# Altium footprint library PCB_Library.PcbLib: 22 footprints (part 1 of 2)
Each footprint in its own frame and in the unit in brackets; x right, y up, seen from the top. Pads: shape width x height; smd on the part's side, far side on the other; paste and mask are expansions set on the pad; w line width, h text height; cw(c..) or ccw(c..) is an arc to the next point about the centre after c.
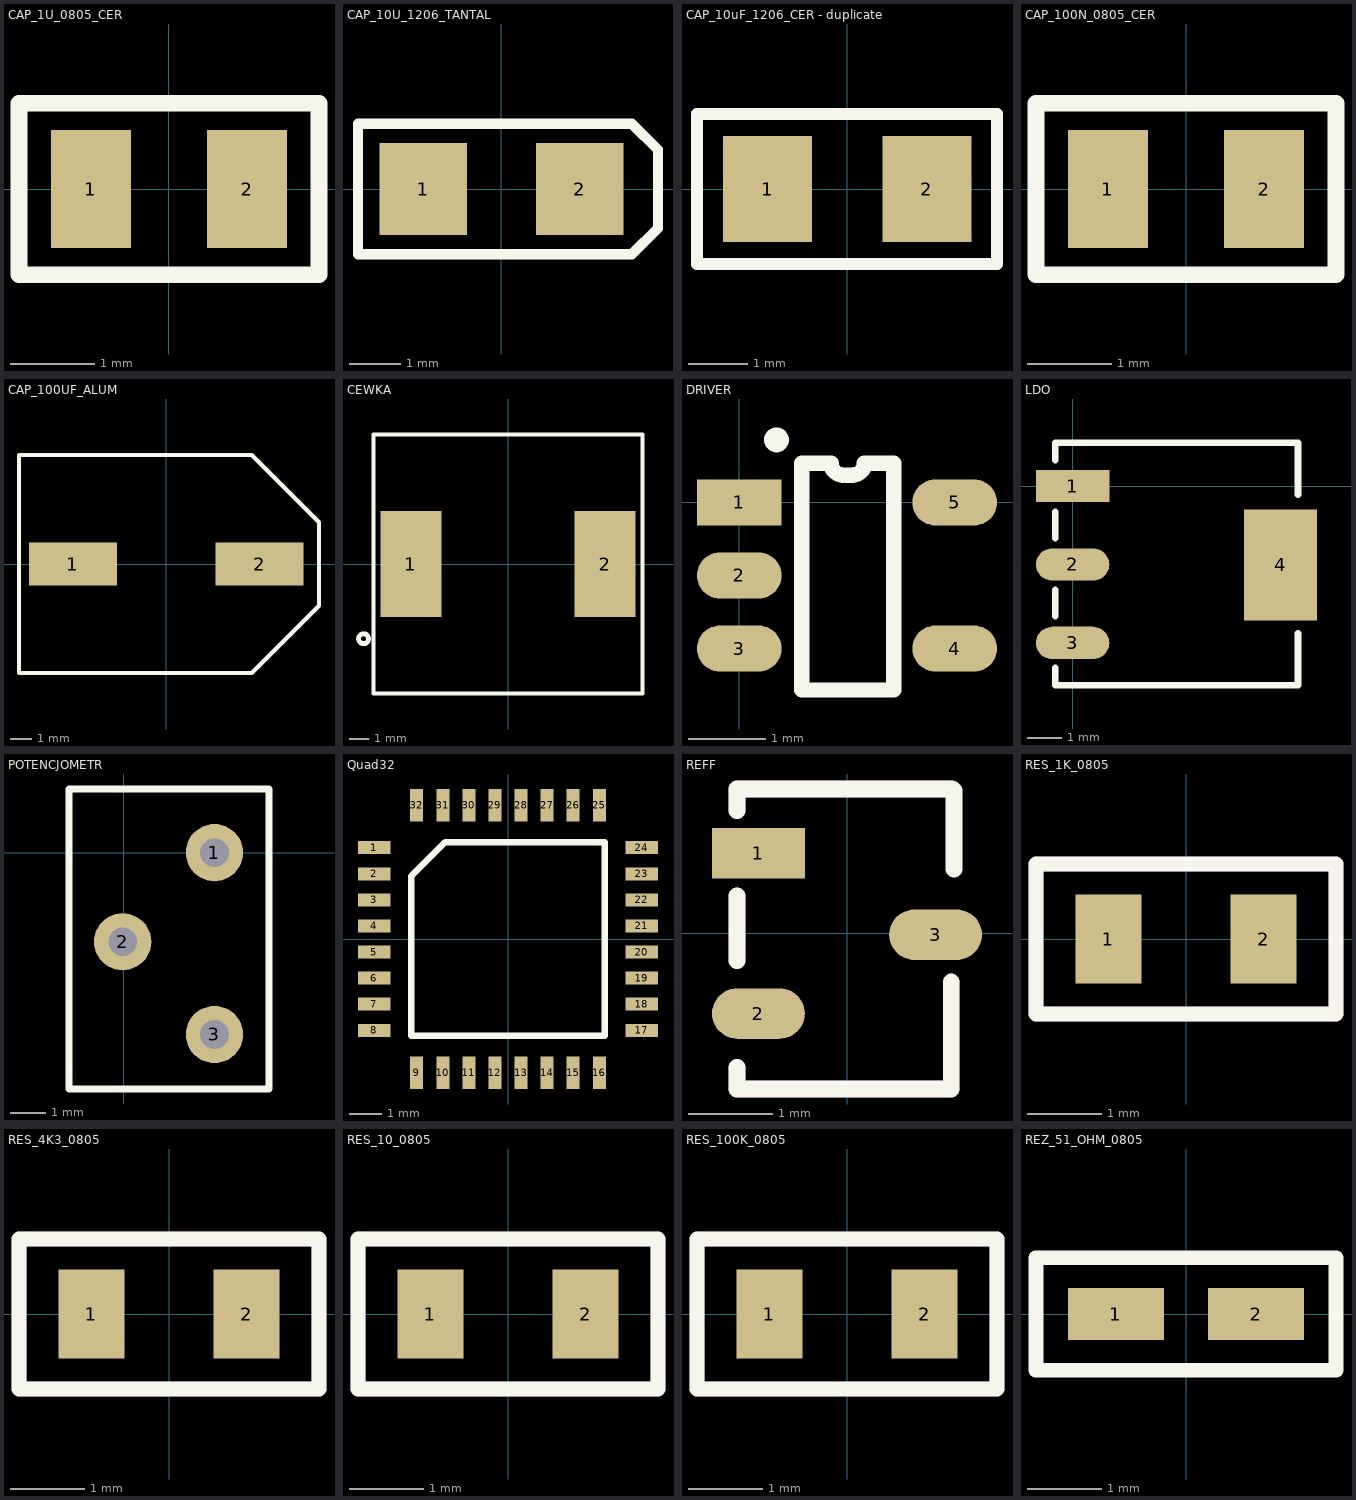
[diagram p0: the footprints below, top view; thin cyan lines are the x and y axes]

## CAP_1U_0805_CER [mm]
pads (2):
  rect 0.95x1.4 smd paste+0: 1(-0.925,0) 2(0.925,0)
Top Overlay:
  lines w0.2: -1.778,-1.016 -1.778,1.016 1.778,1.016 1.778,-1.016 -1.778,-1.016
3D body "step_temp.STEP": height 0.71, standoff 0.01, extent -1,-0.625 1,0.625

## CAP_10U_1206_TANTAL [mm]
pads (2):
  rect 1.7x1.8 smd paste+0: 1(-1.525,0) 2(1.525,0)
Top Overlay:
  lines w0.2: -2.794,-1.27 2.54,-1.27 3.048,-0.762 3.048,0.762 2.54,1.27 -2.794,1.27 -2.794,-1.27
3D body "293D106X9016A2TE3.STEP": height 1.81, standoff 0.01, extent -1.6,-0.8 1.6,0.8

## CAP_10uF_1206_CER - duplicate [mm]
pads (2):
  rect 1.5x1.8 smd: 1(-1.35,0) 2(1.35,0)
Top Overlay:
  lines w0.2: -2.544,-1.27 -2.544,1.27 2.536,1.27 2.536,-1.27 -2.544,-1.27
Top Assembly:
  lines w0.2: -2.544,-1.27 -2.544,1.27 2.536,1.27 2.536,-1.27 -2.544,-1.27
  text ".Designator" at 0.154,0.329 h0.52
3D body "step_temp.STEP": height 1.81, standoff 0.01, extent -1.6,-0.8 1.6,0.8

## CAP_100N_0805_CER [mm]
pads (2):
  rect 0.95x1.4 smd paste+0: 1(-0.925,0) 2(0.925,0)
Top Overlay:
  lines w0.2: -1.778,-1.016 1.778,-1.016 1.778,1.016 -1.778,1.016 -1.778,-1.016
3D body "step_temp.STEP": height 0.71, standoff 0.01, extent -1,-0.625 1,0.625

## CAP_100UF_ALUM [mm]
pads (2):
  rect 4.1x2 smd paste+0: 1(-4.35,0) 2(4.35,0)
Top Overlay:
  lines w0.2: -6.858,-5.08 3.979,-5.08 7.112,-1.947 7.112,1.947 3.979,5.08 -6.858,5.08 -6.858,-5.08
3D body "step_temp.STEP": height 10.21, standoff 0.01, extent -5.85,-5.15 5.85,5.15

## CEWKA [mm]
pads (2):
  rect 3.1x5.4 smd: 1(-4.95,0) 2(4.95,0)
Top Overlay:
  circle w0.25: c-7.366,-3.81 r0.254
  lines w0.2: -6.858,-6.604 -6.858,0.05 -6.858,6.604 6.858,6.604 6.858,-6.604 -6.858,-6.604
3D body "IND_CB_DRA127.step": height 8, standoff 0, extent -6.248,-6.251 6.248,6.251

## DRIVER [mm]
pads (5):
  rect 1.1x0.6 smd paste+0: 1(0,0)
  oval 1.1x0.6 smd paste+0: 2(0,-0.95) 3(0,-1.9) 4(2.8,-1.9) 5(2.8,0)
Top Overlay:
  circle w0.25: c0.483,0.813 r0.036
  lines w0.2: 1.346,0.356 cw(c1.346,0.508) 1.194,0.508 0.813,0.508 0.813,-2.438 2.007,-2.438 2.007,0.508 1.626,0.508 cw(c1.473,0.508) 1.473,0.356 1.397,0.356
3D body "SOT-23-5_MC_MCH.step": height 1.45, standoff 0, extent -0.33,-2.514 2.87,0.584

## LDO [mm]
pads (4):
  rect 2.15x0.95 smd paste+0: 1(0,0)
  oval 2.15x0.95 smd paste+0: 2(0,-2.3) 3(0,-4.6)
  rect 2.15x3.25 smd paste+0: 4(6.096,-2.311)
Top Overlay:
  lines w0.2: -0.508,-5.334 -0.508,-5.842 6.604,-5.842 6.604,-4.318 ; -0.508,-3.81 -0.508,-3.048 ; -0.508,-1.524 -0.508,-0.762 ; -0.508,0.762 -0.508,1.27 6.604,1.27 6.604,-0.254
3D body "LM1117MPX-3.3_NOPB.step": height 1.71, standoff -0.09, extent -0.451,-5.536 6.547,0.964

## POTENCJOMETR [mm]
pads (3):
  round 1.6 hole 0.8: 1(2.54,0) 2(-0.025,-2.489) 3(2.54,-5.08)
Top Overlay:
  lines w0.2: -1.524,-6.604 4.064,-6.604 4.064,1.778 -1.524,1.778 -1.524,-6.604
3D body "POT3_T63XB.step": height 6.76, standoff -6.35, extent -1.296,-6.362 3.708,1.536

## Quad32 [mm]
pads (32):
  rect 1x0.4 smd: 1(-4.1,2.8) 2(-4.1,2) 3(-4.1,1.2) 4(-4.1,0.4) 5(-4.1,-0.4) 6(-4.1,-1.2) 7(-4.1,-2) 8(-4.1,-2.8) 17(4.1,-2.8) 18(4.1,-2) 19(4.1,-1.2) 20(4.1,-0.4) 21(4.1,0.4) 22(4.1,1.2) 23(4.1,2) 24(4.1,2.8)
  rect 0.4x1 smd: 9(-2.8,-4.1) 10(-2,-4.1) 11(-1.2,-4.1) 12(-0.4,-4.1) 13(0.4,-4.1) 14(1.2,-4.1) 15(2,-4.1) 16(2.8,-4.1) 25(2.8,4.1) 26(2,4.1) 27(1.2,4.1) 28(0.4,4.1) 29(-0.4,4.1) 30(-1.2,4.1) 31(-2,4.1) 32(-2.8,4.1)
Top Overlay:
  lines w0.2: -2.965,-2.965 -2.965,1.93 -1.93,2.965 2.965,2.965 2.965,-2.965 -2.965,-2.965
3D body "LQFP-32.step": height 1.6, standoff 0, extent -4.496,-4.496 4.496,4.496

## REFF [mm]
pads (3):
  rect 1.1x0.6 smd paste+0: 1(-1.05,0.95)
  oval 1.1x0.6 smd paste+0: 2(-1.05,-0.95)
  oval 1.1x0.6 smd: 3(1.05,-0.015)
Top Overlay:
  lines w0.2: -1.304,-1.59 -1.304,-1.844 1.236,-1.844 1.236,-0.574 ; -1.304,-0.32 -1.304,0.442 ; -1.304,1.458 -1.304,1.712 1.236,1.712 cw(c1.236,1.678) 1.27,1.678 1.27,0.762
Top Assembly:
  lines w0.2: -1.304,-1.59 -1.304,-1.844 1.236,-1.844 1.236,-0.574 ; -1.304,-0.32 -1.304,0.442 ; -1.304,1.458 -1.304,1.712 1.236,1.712
3D body "REF3033AIDBZR.step": height 1.03, standoff -0.09, extent -1.27,-1.475 1.1,1.445

## RES_1K_0805 [mm]
pads (2):
  rect 0.9x1.2 smd paste+0 mask+0.102: 1(-1.05,0) 2(1.05,0)
Top Overlay:
  lines w0.2: -2.032,-1.016 -2.032,1.016 2.032,1.016 2.032,-1.016 -2.032,-1.016
Top Assembly:
  lines w0.2: -2.032,-1.016 -2.032,1.016 2.032,1.016 2.032,-1.016 -2.032,-1.016
3D body "step_temp.STEP": height 0.61, standoff 0.01, extent -1,-0.625 1,0.625

## RES_4K3_0805 [mm]
pads (2):
  rect 0.9x1.2 smd paste+0 mask+0.102: 1(-1.05,0) 2(1.05,0)
Top Overlay:
  lines w0.2: -2.032,-1.016 2.032,-1.016 2.032,1.016 -2.032,1.016 -2.032,-1.016
Top Assembly:
  lines w0.2: -2.032,-1.016 2.032,-1.016 2.032,1.016 -2.032,1.016 -2.032,-1.016
3D body "step_temp.STEP": height 0.61, standoff 0.01, extent -1,-0.625 1,0.625

## RES_10_0805 [mm]
pads (2):
  rect 0.9x1.2 smd paste+0 mask+0.102: 1(-1.05,0) 2(1.05,0)
Top Overlay:
  lines w0.2: -2.032,-1.016 -2.032,1.016 2.032,1.016 2.032,-1.016 -2.032,-1.016
Top Assembly:
  lines w0.2: -2.032,-1.016 -2.032,1.016 2.032,1.016 2.032,-1.016 -2.032,-1.016
3D body "step_temp.STEP": height 0.61, standoff 0.01, extent -1,-0.625 1,0.625

## RES_100K_0805 [mm]
pads (2):
  rect 0.9x1.2 smd paste+0 mask+0.102: 1(-1.05,0) 2(1.05,0)
Top Overlay:
  lines w0.2: -2.032,-1.016 -2.032,1.016 2.032,1.016 2.032,-1.016 -2.032,-1.016
Top Assembly:
  lines w0.2: -2.032,-1.016 -2.032,1.016 2.032,1.016 2.032,-1.016 -2.032,-1.016
3D body "step_temp.STEP": height 0.61, standoff 0.01, extent -1,-0.625 1,0.625

## REZ_51_OHM_0805 [mm]
pads (2):
  rect 1.3x0.7 smd: 1(-0.95,0) 2(0.95,0)
Top Overlay:
  lines w0.2: -2.032,-0.762 -2.032,0.762 2.032,0.762 2.032,-0.762 -2.032,-0.762
3D body "step_temp.STEP": height 0.61, standoff 0.01, extent -1,-0.625 1,0.625